# EAGLE library part MAX14662 (library cdp)
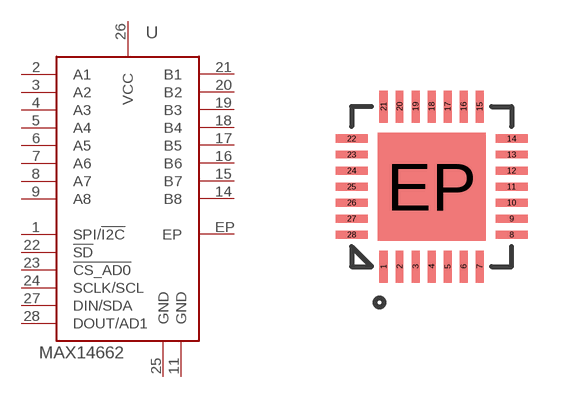
[diagram p48: symbol with the pads of QFN28; footprint QFN28]

Designator prefix U

## MAX14662  [QFN28]
1  SPI/!I2C
2  A1
3  A2
4  A3
5  A4
6  A5
7  A6
8  A7
9  A8
11  GND
14  B8
15  B7
16  B6
17  B5
18  B4
19  B3
20  B2
21  B1
22  !SD
23  !CS_AD0
24  SCLK/SCL
25  GND
26  VCC
27  DIN/SDA
28  DOUT/AD1
EP  EP

## Footprint QFN28 (pad centres in mm)
smd 0.2 x 0.8: 1 -1.2,-2; 2 -0.8,-2; 3 -0.4,-2; 4 0,-2; 5 0.4,-2; 6 0.8,-2; 7 1.2,-2; 15 1.2,2; 16 0.8,2; 17 0.4,2; 18 0,2; 19 -0.4,2; 20 -0.8,2; 21 -1.2,2
smd 0.8 x 0.2: 8 2,-1.2; 9 2,-0.8; 10 2,-0.4; 11 2,0; 12 2,0.4; 13 2,0.8; 14 2,1.2; 22 -2,1.2; 23 -2,0.8; 24 -2,0.4; 25 -2,0; 26 -2,-0.4; 27 -2,-0.8; 28 -2,-1.2
smd 2.7 x 2.7: EP 0,0